# Altium footprint library Passive.PcbLib: 4 footprints
Each footprint in its own frame and in the unit in brackets; x right, y up, seen from the top. Pads: shape width x height; smd on the part's side, far side on the other; paste and mask are expansions set on the pad; w line width, h text height; cw(c..) or ccw(c..) is an arc to the next point about the centre after c.
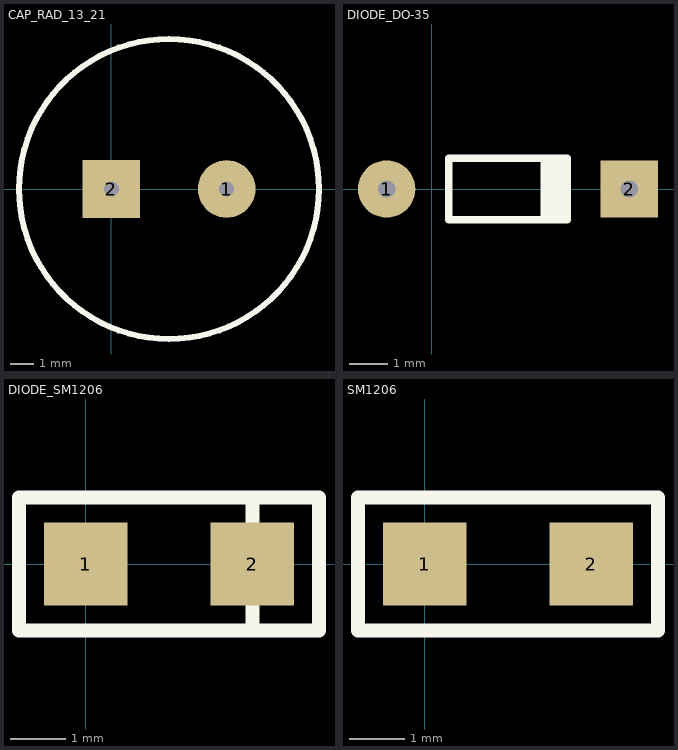
[diagram p0: the footprints below, top view; thin cyan lines are the x and y axes]

## CAP_RAD_13_21 [mm]
pads (2):
  round 2.5 hole 0.65: 1(5,0)
  rect 2.5x2.5 hole 0.65: 2(0,0)
Top Overlay:
  circle w0.254: c2.5,0 r6.5

## DIODE_DO-35 [mm]
pads (2):
  round 1.5 hole 0.45: 1(-1.175,0)
  rect 1.5x1.5 hole 0.45: 2(5.175,0)
Top Overlay:
  rectangle: 2.85,-0.8 3.65,0.8
  lines w0.2: 3.55,-0.8 0.45,-0.8 0.45,0.8 3.55,0.8

## DIODE_SM1206 [mm]
pads (2):
  rect 1.5x1.5 smd: 1(0,0) 2(3,0)
Top Overlay:
  lines w0.254: 3,-1.2 3,1.2 ; -1.2,-1.2 -1.2,1.2 4.2,1.2 4.2,-1.2 -1.2,-1.2

## SM1206 [mm]
pads (2):
  rect 1.5x1.5 smd: 1(0,0) 2(3,0)
Top Overlay:
  lines w0.254: -1.2,-1.2 4.2,-1.2 4.2,1.2 -1.2,1.2 -1.2,-1.2